# Altium footprint library SG__PCB_Unsorted.PcbLib: 113 footprints (part 8 of 8)
Each footprint in its own frame and in the unit in brackets; x right, y up, seen from the top. Pads: shape width x height; smd on the part's side, far side on the other; paste and mask are expansions set on the pad; w line width, h text height; cw(c..) or ccw(c..) is an arc to the next point about the centre after c.
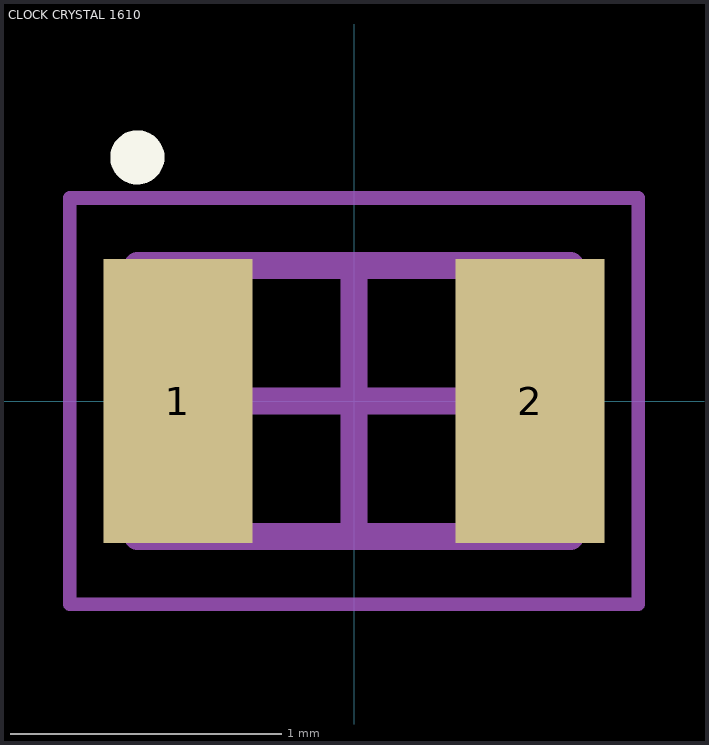
[diagram p7: the footprint, top view; thin cyan lines are the x and y axes]

## СLOCK CRYSTAL 1610 [mm]
height 0.5
pads (2):
  rect 0.55x1.05 smd: 1(-0.65,0) 2(0.65,0)
Top Overlay:
  circle w0.1: c-0.8,0.9 r0.05
Assembly Top:
  lines w0.1: -0.8,-0.5 0.8,-0.5 0.8,0.5 -0.8,0.5 -0.8,-0.5
Courtyard Top:
  lines w0.05: -1.05,-0.75 1.05,-0.75 1.05,0.75 -1.05,0.75 -1.05,-0.75
  lines w0.1: -0.5,0 0.5,0 ; 0,-0.5 0,0.5
3D body: height 0.5, standoff 0.05, extent -0.8,-0.5 0.8,0.5